# Altium footprint library DePin.PcbLib: 1 footprints
Each footprint in its own frame and in the unit in brackets; x right, y up, seen from the top. Pads: shape width x height; smd on the part's side, far side on the other; paste and mask are expansions set on the pad; w line width, h text height; cw(c..) or ccw(c..) is an arc to the next point about the centre after c.
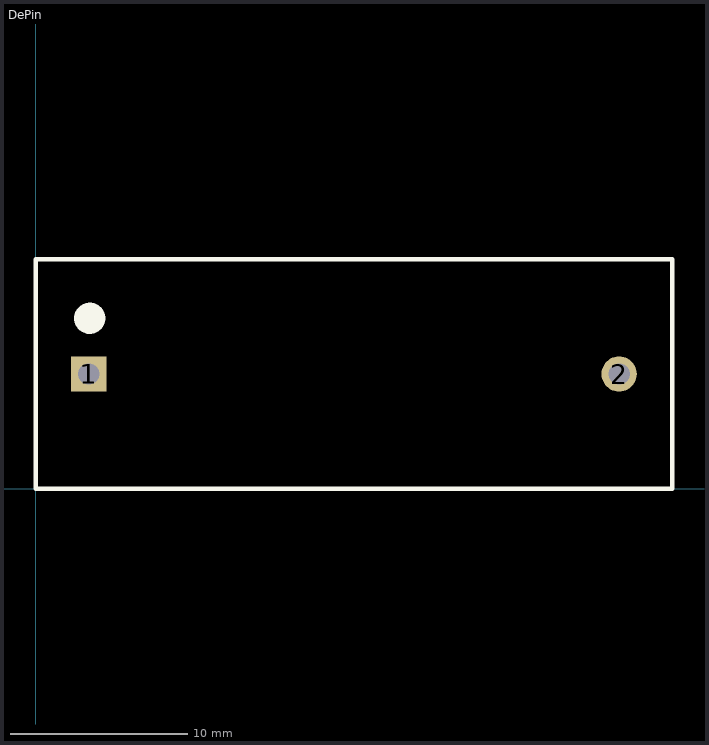
[diagram p0: the footprint, top view; thin cyan lines are the x and y axes]

## DePin [mm]
pads (2):
  rect 2x2 hole 1.2: 1(3,6.5)
  round 2 hole 1.2: 2(33,6.5)
Top Overlay:
  circle w1: c3.048,9.652 r0.381
  lines w0.254: 0,0 36,0 36,13 0,13 0,0